# Altium footprint library BME280.PcbLib: 2 footprints
Each footprint in its own frame and in the unit in brackets; x right, y up, seen from the top. Pads: shape width x height; smd on the part's side, far side on the other; paste and mask are expansions set on the pad; w line width, h text height; cw(c..) or ccw(c..) is an arc to the next point about the centre after c.
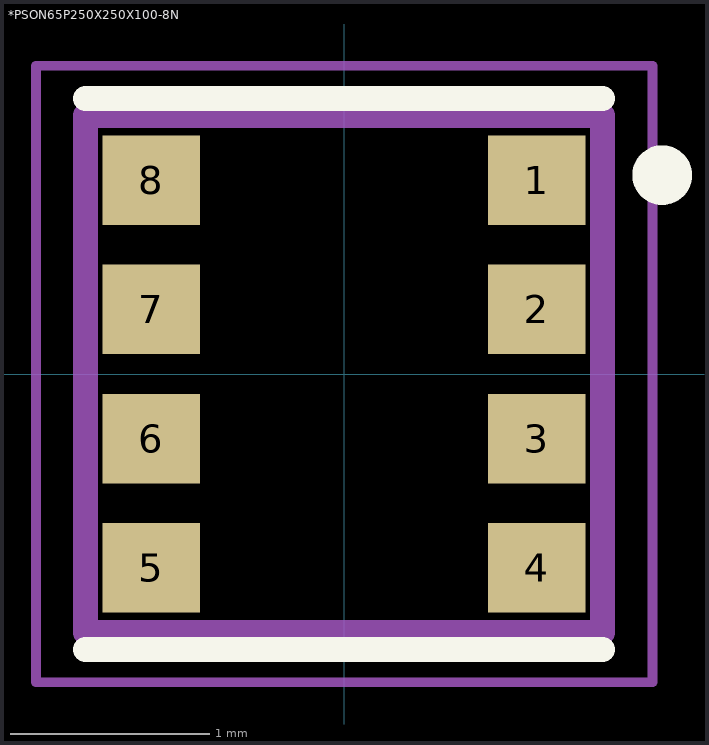
[diagram p0: the footprints below, top view; thin cyan lines are the x and y axes]

## *PSON65P250X250X100-8N [mm]
pads (8):
  rect 0.49x0.45 smd: 1(0.97,0.975) 2(0.97,0.325) 3(0.97,-0.325) 4(0.97,-0.975) 5(-0.97,-0.975) 6(-0.97,-0.325) 7(-0.97,0.325) 8(-0.97,0.975)
Top Overlay:
  circle w0.2: c1.6,1 r0.05
  lines w0.127: -1.3,-1.385 1.3,-1.385 ; -1.3,1.385 1.3,1.385
Mechanical 4:
  circle w0.2: c1,1 r0.05
  circle w0.2: c1,1 r0.05
  lines w0.127: -1.3,-1.3 1.3,-1.3 ; -1.3,-1.3 -1.3,1.3 ; -1.3,-1.3 1.3,-1.3 ; -1.3,-1.3 -1.3,1.3 ; -1.3,1.3 1.3,1.3 ; -1.3,1.3 1.3,1.3 ; 1.3,-1.3 1.3,1.3 ; 1.3,-1.3 1.3,1.3
Mechanical 16:
  lines w0.05: -1.55,-1.55 -1.55,1.55 1.55,1.55 1.55,-1.55 -1.55,-1.55

## PCBComponent_1 [mm]